# EAGLE library part M24M01 (library Strutz Electronic Industries)
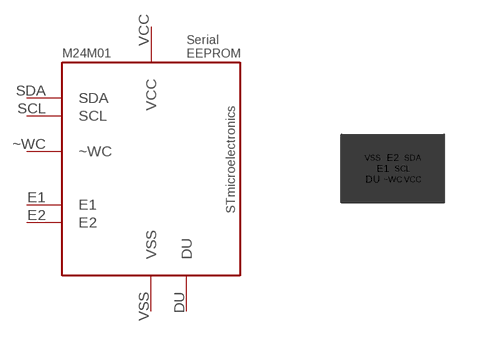
[diagram p2: symbol with the pads of M24M01; footprint M24M01]

Designator prefix -

## M24M01  [M24M01]
DU  DU
E1  E1
E2  E2
SCL  SCL
SDA  SDA
VCC  VCC
VSS  VSS
~WC  ~WC

## Footprint M24M01 (pad centres in mm)
smd 0.27 x 0.27: DU -0.5,-0.27; E1 -0.25,0; E2 0,0.27; SCL 0.245,0; SDA 0.5,0.27; VCC 0.5,-0.27; VSS -0.5,0.27; ~WC 0,-0.27